# EAGLE library part AS5132 (library SKAARHOJ)
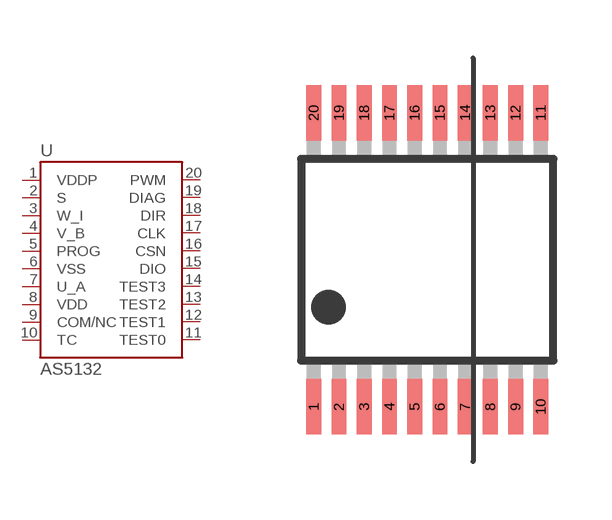
[diagram p36: symbol with the pads of SSOP20_AS5132; footprint SSOP20_AS5132]

Designator prefix -

## AS5132  [SSOP20_AS5132]
1  VDDP  pwr
2  S  out
3  W_I  out
4  V_B  out
5  PROG  pwr
6  VSS  pwr
7  U_A  out
8  VDD  pwr
9  COM/NC  in
10  TC  in
11  TEST0
12  TEST1
13  TEST2
14  TEST3
15  DIO
16  CSN  in
17  CLK  in
18  DIR  in
19  DIAG  out
20  PWM  out

## Footprint SSOP20_AS5132 (pad centres in mm)
smd 0.381 x 1.435: 1 -2.925,-3.791; 2 -2.275,-3.791; 3 -1.625,-3.791; 4 -0.975,-3.791; 5 -0.325,-3.791; 6 0.325,-3.791; 7 0.975,-3.791; 8 1.625,-3.791; 9 2.275,-3.791; 10 2.925,-3.791; 11 2.925,3.791; 12 2.275,3.791; 13 1.625,3.791; 14 0.975,3.791; 15 0.325,3.791; 16 -0.325,3.791; 17 -0.975,3.791; 18 -1.625,3.791; 19 -2.275,3.791; 20 -2.925,3.791